# Altium footprint library 178P6165P0001.PcbLib: 1 footprints
Each footprint in its own frame and in the unit in brackets; x right, y up, seen from the top. Pads: shape width x height; smd on the part's side, far side on the other; paste and mask are expansions set on the pad; w line width, h text height; cw(c..) or ccw(c..) is an arc to the next point about the centre after c.
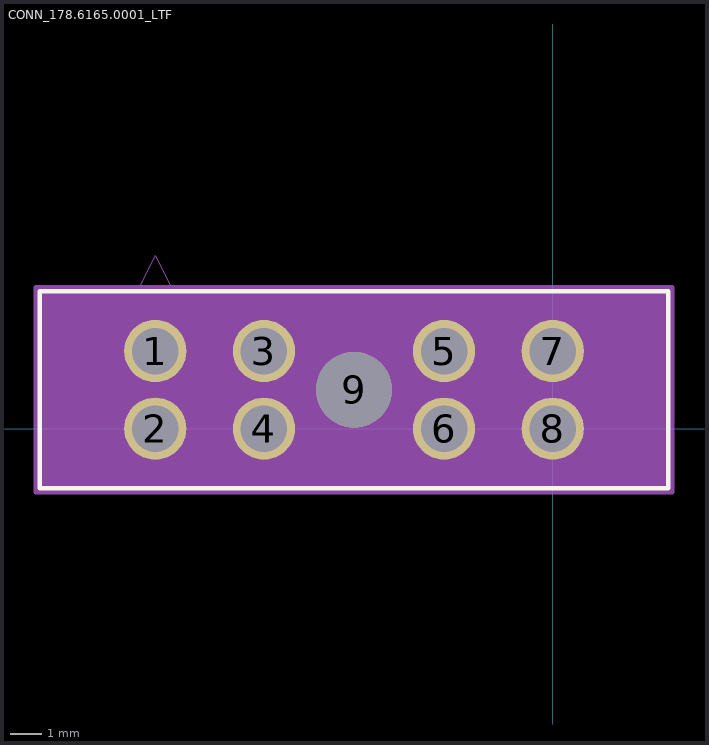
[diagram p0: the footprint, top view; thin cyan lines are the x and y axes]

## CONN_178.6165.0001_LTF [mil]
pads (9):
  round 79 / inner round 60 / far side round 79 hole 59 paste-39.5 mask+0: 1(-503.94,98.26) 2(-503.94,-0.17) 3(-366.14,98.26) 4(-366.14,-0.17) 5(-137.8,98.26) 6(-137.8,-0.17) 7(0,98.26) 8(0,-0.17)
  round 96 / inner round 60 / far side round 96 hole 96 unplated paste-48 mask-48: 9(-251.97,49.13)
Top Overlay:
  lines w6: -650.47,-75.87 -650.47,174.13 146.53,174.13 146.53,-75.87 -650.47,-75.87
Mechanical 13:
  lines w1: -528.94,169.13 -503.94,219.13 -478.94,169.13 ; -645.47,-70.87 -645.47,169.13 141.53,169.13 141.53,-70.87 -645.47,-70.87
Mechanical 15:
  region: 151.53,179.13 151.53,-80.87 -655.47,-80.87 -655.47,179.13
  lines w6: -655.47,-80.87 151.53,-80.87 151.53,179.13 -655.47,179.13 -655.47,-80.87